# Altium integrated library Linear Technology Power Management Switching Regulator LTC1174-LTC3901.IntLib: 2647 symbols (part 347 of 364)
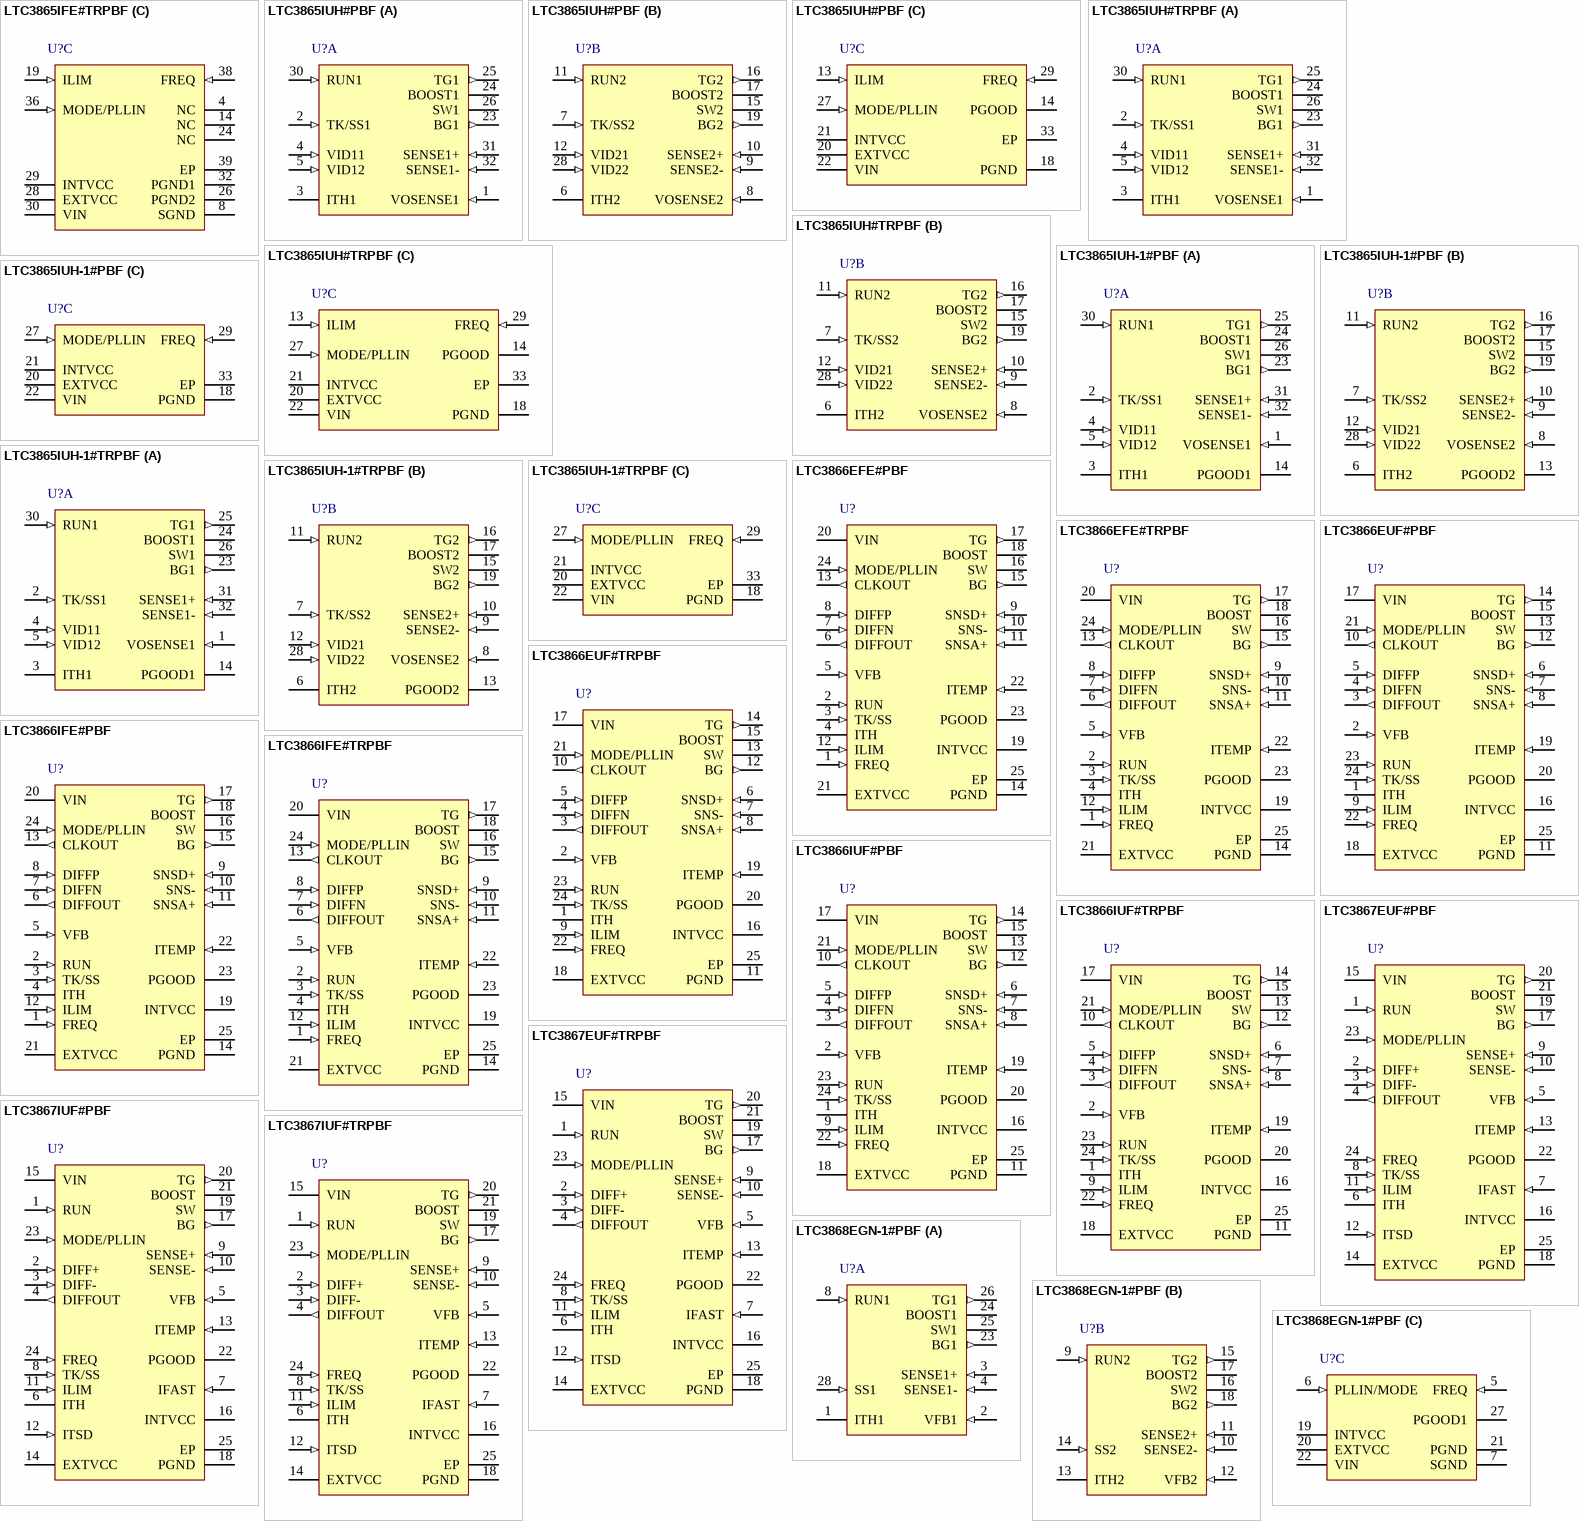
[diagram p396: symbols LTC3865IFE#TRPBF to LTC3868EGN-1#PBF]

## LTC3866IFE#PBF
designator U?
Current Mode Synchronous Controller for Sub Milliohm DCR Sensing, 24-pin SOP (FE-24-EPV-AA), -40 to 125 degC, Pb-Free; Manufacturer: Linear Technology; PartNumber: LTC3866IFE#PBF; Frequency Sync Range: 250kHz - 770kHz; Number of Outputs: 1; DatasheetVersion: Rev. B; PackageVersion: Rev. B, 09/2010; PackageReference: FE-24; PackageDescription: 24-Pin Plastic TSSOP, Body 7.8 x 4.4 mm, Pitch 0.65 mm; Supplier 1: Digi-Key; Supplier Part Number 1: LTC3866IFE#PBF-ND; Supplier 2: Farnell; Supplier Part Number 2: 2097882; Supplier 3: Newark; Supplier Part Number 3: 82T3907; RoHS: TRUE; Mounting Technology: Surface Mount; ComponentLink1Description: Manufacturer URL; ComponentLink1URL: http://www.linear.com/; ComponentLink2Description: Datasheet; ComponentLink2URL: http://cds.linear.com/docs/en/datasheet/3866fb.pdf; ComponentLink3Description: Package Specification; ComponentLink3URL: http://cds.linear.com/docs/en/packaging/TSSOP_24_05-08-1771.pdf
footprint LT-FE-24-EPV-AA_N (SOP, 24-Leads, Body 7.9x4.5mm, Pitch 0.65mm, Thermal Pad 2.74x3.25mm, IPC Medium Density)
footprint LT-FE-24-EPV-AA_L (SOP, 24-Leads, Body 7.9x4.5mm, Pitch 0.65mm, Thermal Pad 2.74x3.25mm, IPC High Density)
footprint LT-FE-24-EPV-AA_M (SOP, 24-Leads, Body 7.9x4.5mm, Pitch 0.65mm, Thermal Pad 2.74x3.25mm, IPC Low Density)
pins: 1 FREQ (in) "Oscillator Frequency Control Input. A 10uA current source flows out of this pin. Connecting a resistor between this pin and ground sets a DC voltage which in turn programs the oscillator frequency. Alternatively, this pin (See Datasheet)", 2 RUN (in) "Run Control Input. A voltage above 1.22V turns on the IC. Pulling this pin below 1.14V causes M198 the IC to shut down. There is a 1uA pull-up current for the pin. Once the RUN pin rises above 1.22V, an additional 4.5uA (See Datasheet)", 3 TK/SS (in) "Output Voltage Tracking and Soft-Start Input. An internal soft-start current of 1.25uA charges the external soft-start capacitor connected to this pin.", 4 ITH "Current Control Threshold and Error Amplifier Compensation Pin. The current comparator tripping threshold is proportional with this voltage.", 5 VFB (in) "Error Amplifier Feedback Input. This pin receives the remotely sensed feedback voltage to set the output voltage through an external resistive divider connected to the DIFFOUT pin or the output.", 6 DIFFOUT (out) "Output of Remote Sensing Differential Amplifier. Connect this pin to VFB through a resistive divider to set the desired output voltage.", 7 DIFFN (in) "Negative Input of Remote Sensing Differential Amplifier. Connect this pin close to the ground of the output load.", 8 DIFFP (in) "Positive Input of Remote Sensing Differential Amplifier. Connect this pin close to the output load.", 9 SNSD+ (in) "First Positive Current Sense Input. This pin is connected to sense the signal of the output inductor’s DCR, it is to be used with a filter that matches the bandwidth, L/DCR, of the inductor.", 10 SNS- (in) "Negative Current Sense Input. This negative input of the current comparator is to be connected to the output.", 11 SNSA+ (in) "Second Positive Current Sense Input. This input is to be connected to sense the signal of the output’s inductor DCR with a filter bandwidth of five times larger than L/DCR.", 12 ILIM (in) "Current Comparator Sense Voltage Limit. Apply a DC voltage to set the maximum current sense threshold for the current comparator.", 13 CLKOUT (out) "Clock Output Pin. The CLKOUT signal is 180degrees out of phase to the rising edge of the IC internal clock.", 14 PGND (power) "Power Ground. Connect to the source of the bottom N-channel MOSFET and the negative terminals of the VIN and INTVCC decoupling capacitors close to this pin.", 15 BG (out) "Bottom Gate Driver Output. This pin drives the gate of the bottom N-channel MOSFET and swings between INTVCC or EXTVCC and PGND.", 16 SW "Switch Node Connection. Connect this pin to the output filter inductor, bottom N-channel MOSFET drain and top N-channel MOSFET source. Voltage swing at these pins is from a Schottky diode (external) voltage drop below ground (See Datasheet)", 17 TG (out) "Top Gate Driver Output. This is a floating driver to be connected to the gate of the top N-channel MOSFET. The voltage swing of this pin equals to INTVCC superimposed over the switch node (SW) voltage.", 18 BOOST "Boosted Top Gate Driver Supply. The (+) terminal of the booststrap capacitor connects to this pin. This pins swings from a diode voltage drop below INTVCC up to VIN + INTVCC.", 19 INTVCC (power) "Internal 5.5V Regulator Output. The internal control circuits are powered from this voltage. Decouple this pin to PGND with a 4.7uF low ESR tantalum or ceramic capacitor.", 20 VIN (power) "Main Input Supply. Decouple this pin to PGND with a capacitor (0.1uF to 1uF). For applications where the main input power is 5V, tie the VIN and INTVCC pins together.", 21 EXTVCC (power) "External Supply Voltage Input. Whenever an external voltage supply greater than 4.7V is connected to this pin, an internal switch will close and bypass the internal low dropout regulator, and the external supply will power (See Datasheet)", 22 ITEMP (in) "Temperature DCR Compensation Input. Connect to a NTC (negative tempco) resistor placed near the output inductor to compensate for its DCR change over temperature. Floating this pin or tying it to INTVCC disables the DCR (See Datasheet)", 23 PGOOD (oc) "Power Good Indicator Output. Open-drain logic out that is pulled to ground when the output exceeds the 10% regulation window, after the internal 20us power bad mask timer expires.", 24 MODE/PLLIN (in) "Mode Operation or External Clock Synchronization. Connect this pin to SGND to set the continuous mode of operation. Connect to INTVCC to enable pulse-skipping mode of operation. Leaving the pin floating will enable Burst (See Datasheet)", 25 EP (power) "Signal Ground. This is the ground of the controller. Connect compensation components and output setting resistors to this ground. The exposed pad must be soldered to the PCB ground plane."